# EAGLE library part BTS4880R (library PROFET - Infineon)
BTS4880R Smart Power High-Side-Switch, Eight Channels: 8 X 200mOhm SOP65P1420X350-37N-1
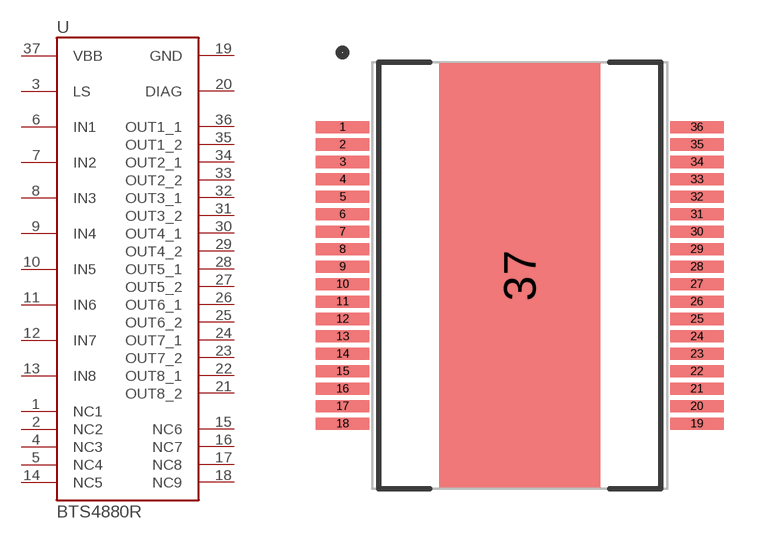
[diagram p12: symbol with the pads of SOP65P1420X350-37N-1; footprint SOP65P1420X350-37N-1]

Designator prefix U

## BTS4880R  [SOP65P1420X350-37N-1]
1  NC1  pas
2  NC2  pas
3  LS  in
4  NC3  pas
5  NC4  pas
6  IN1  in
7  IN2  in
8  IN3  in
9  IN4  in
10  IN5  in
11  IN6  in
12  IN7  in
13  IN8  in
14  NC5  pas
15  NC6  pas
16  NC7  pas
17  NC8  pas
18  NC9  pas
19  GND  pwr
20  DIAG  out
21  OUT8_2  out
22  OUT8_1  out
23  OUT7_2  out
24  OUT7_1  out
25  OUT6_2  out
26  OUT6_1  out
27  OUT5_2  out
28  OUT5_1  out
29  OUT4_2  out
30  OUT4_1  out
31  OUT3_2  out
32  OUT3_1  out
33  OUT2_2  out
34  OUT2_1  out
35  OUT1_2  out
36  OUT1_1  out
37  VBB  pwr

## Footprint SOP65P1420X350-37N-1 (pad centres in mm)
Original name SOP65P1420X350-37N-1 Max Component Height - 3.5mm
smd 2 x 0.45: 1 -6.6,5.525; 2 -6.6,4.875; 3 -6.6,4.225; 4 -6.6,3.575; 5 -6.6,2.925; 6 -6.6,2.275; 7 -6.6,1.625; 8 -6.6,0.975; 9 -6.6,0.325; 10 -6.6,-0.325; 11 -6.6,-0.975; 12 -6.6,-1.625; 13 -6.6,-2.275; 14 -6.6,-2.925; 15 -6.6,-3.575; 16 -6.6,-4.225; 17 -6.6,-4.875; 18 -6.6,-5.525; 19 6.6,-5.525; 20 6.6,-4.875; 21 6.6,-4.225; 22 6.6,-3.575; 23 6.6,-2.925; 24 6.6,-2.275; 25 6.6,-1.625; 26 6.6,-0.975; 27 6.6,-0.325; 28 6.6,0.325; 29 6.6,0.975; 30 6.6,1.625; 31 6.6,2.275; 32 6.6,2.925; 33 6.6,3.575; 34 6.6,4.225; 35 6.6,4.875; 36 6.6,5.525
smd 6 x 15.8: 37 0,0